# Altium schematic symbol library Schlib1.SchLib: 1 symbol
Pins are listed as number, name and electrical type; pins without a type are passive.

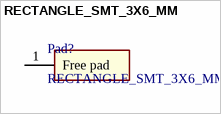
[diagram p0: symbol RECTANGLE_SMT_3X6_MM]

## RECTANGLE_SMT_3X6_MM
designator Pad?
Free pad
footprint RECTANGLE_SMT_3X6_MM
pins: 1 Free pad